# Altium footprint library DFN-14.PcbLib: 1 footprints
Each footprint in its own frame and in the unit in brackets; x right, y up, seen from the top. Pads: shape width x height; smd on the part's side, far side on the other; paste and mask are expansions set on the pad; w line width, h text height; cw(c..) or ccw(c..) is an arc to the next point about the centre after c.
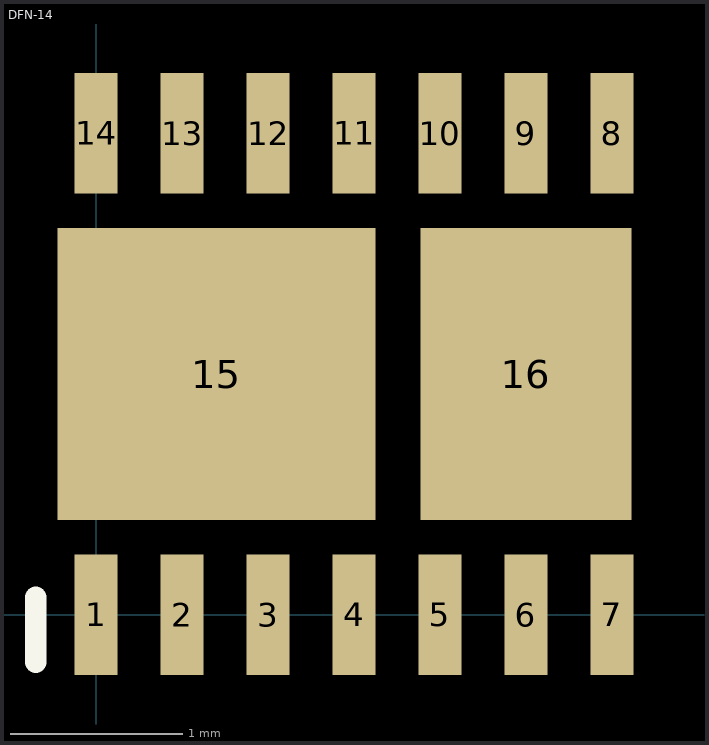
[diagram p0: the footprint, top view; thin cyan lines are the x and y axes]

## DFN-14 [mm] "DFN14 w/ powerpad for LT3032"
height 2
pads (16):
  rect 0.25x0.7 smd: 1(0,0) 2(0.5,0) 3(1,0) 4(1.5,0) 5(2,0) 6(2.5,0) 7(3,0) 8(3,2.8) 9(2.5,2.8) 10(2,2.8) 11(1.5,2.8) 12(1,2.8) 13(0.5,2.8) 14(0,2.8)
  rect 1.85x1.7 smd: 15(0.7,1.4)
  rect 1.225x1.7 smd: 16(2.5,1.4)
TopOverlay:
  lines w0.127: -0.35,-0.275 -0.35,0.1
3D body: height 0.75, standoff 0, extent -0.5,-0.1 3.5,2.9